# Altium footprint library ElectroPlantoE.PcbLib: 20 footprints (part 1 of 2)
Each footprint in its own frame and in the unit in brackets; x right, y up, seen from the top. Pads: shape width x height; smd on the part's side, far side on the other; paste and mask are expansions set on the pad; w line width, h text height; cw(c..) or ccw(c..) is an arc to the next point about the centre after c.
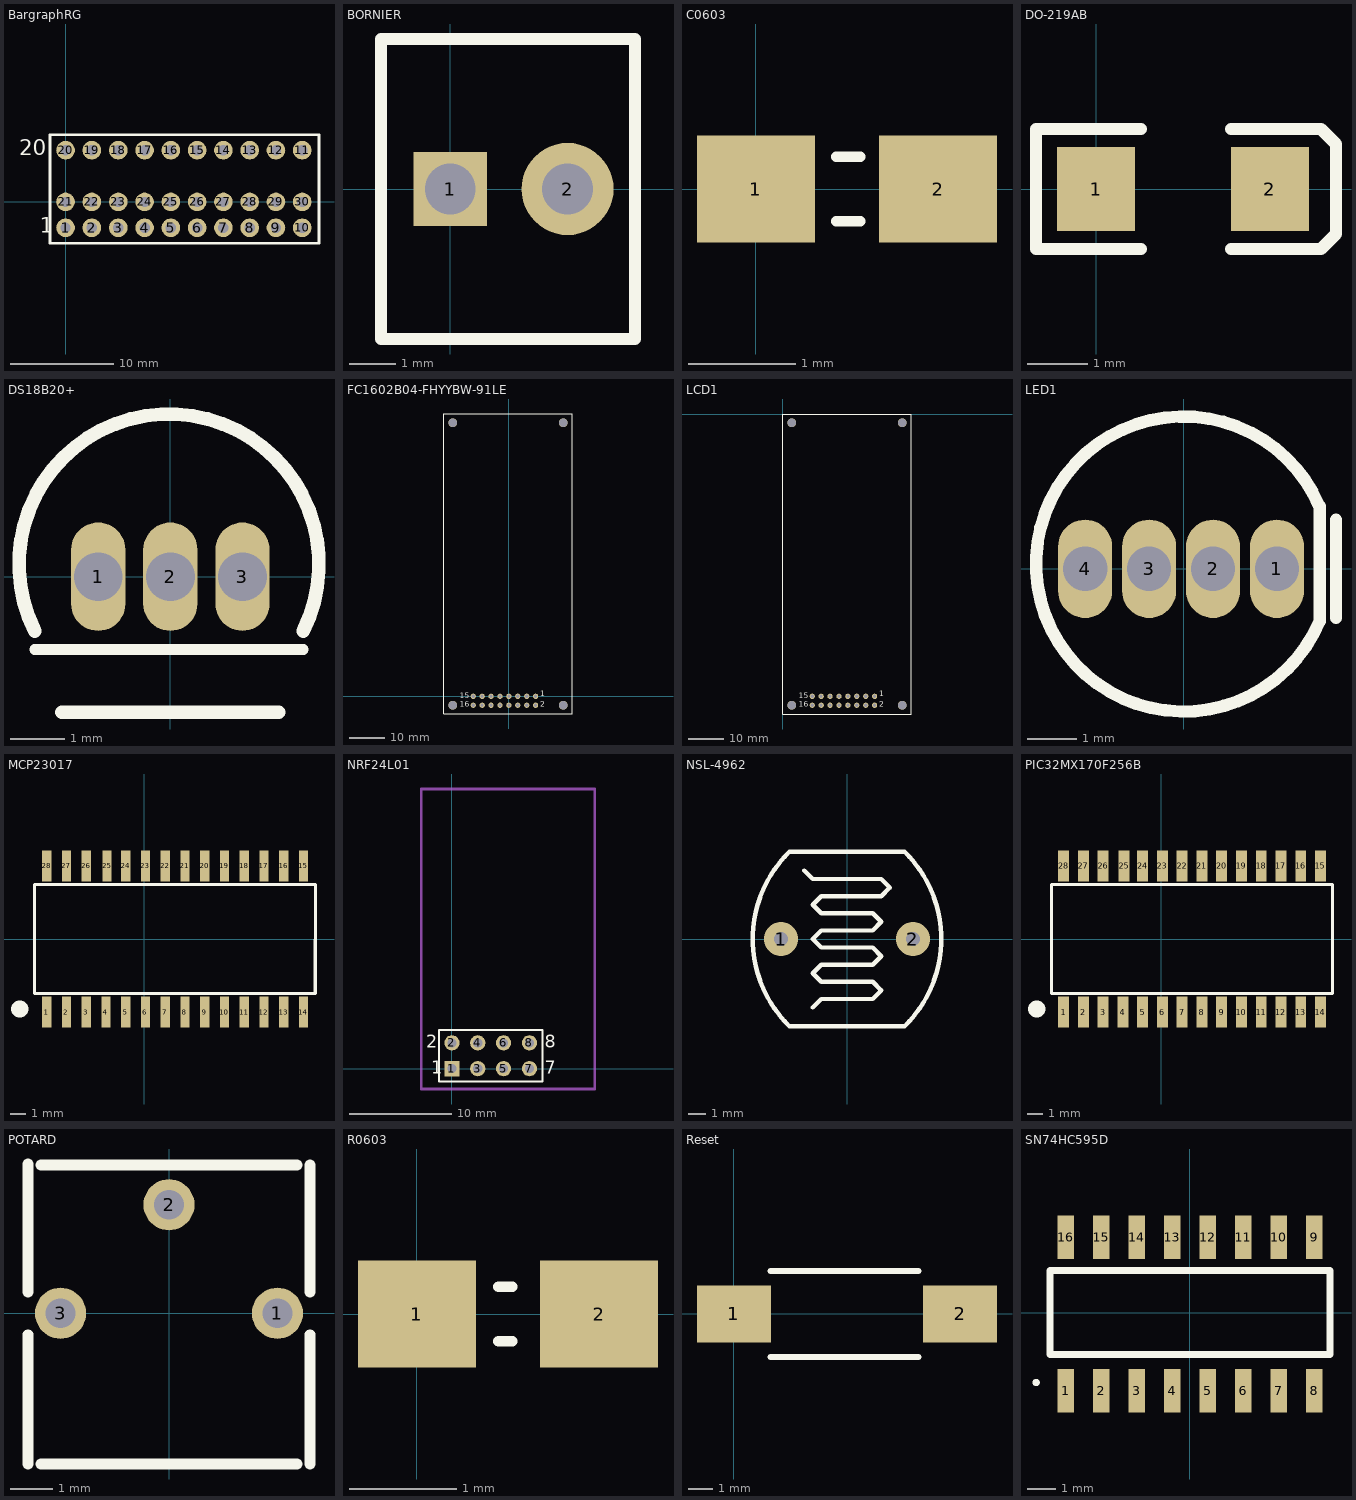
[diagram p0: the footprints below, top view; thin cyan lines are the x and y axes]

## BargraphRG [mm]
height 8
pads (30):
  round 1.8 hole 1: 1(0,-2.5) 2(2.54,-2.5) 3(5.1,-2.5) 4(7.64,-2.5) 5(10.18,-2.5) 6(12.72,-2.5) 7(15.26,-2.5) 8(17.8,-2.5) 9(20.34,-2.5) 10(22.88,-2.5) 11(22.88,5) 12(20.34,5) 13(17.8,5) 14(15.26,5) 15(12.72,5) 16(10.18,5) 17(7.64,5) 18(5.1,5) 19(2.54,5) 20(0,5) 21(0,0) 22(2.54,0) 23(5.1,0) 24(7.64,0) 25(10.18,0) 26(12.72,0) 27(15.26,0) 28(17.8,0) 29(20.34,0) 30(22.88,0)
Top Overlay:
  lines w0.254: -1.5,-4 24.5,-4 24.5,6.5 -1.5,6.5 -1.5,-4
  text "20" at -4.5,4.5 h1.52
  text "1" at -2.5,-3 h1.52

## BORNIER [mm]
pads (2):
  rect 1.6x1.6 hole 1.1: 1(0,0)
  round 2 hole 1.1: 2(2.54,0)
Top Overlay:
  lines w0.254: -1.5,-3.25 4,-3.25 4,3.25 -1.5,3.25 -1.5,-3.25

## C0603 [mm]
pads (2):
  rect 1.1x1 smd: 1(0,0) 2(1.7,0)
Top Overlay:
  lines w0.1: 0.75,-0.3 0.975,-0.3 ; 0.75,0.3 0.975,0.3

## DO-219AB [mm]
height 1.08
pads (2):
  rect 1.3x1.4 smd: 1(0,0) 2(2.9,0)
Top Overlay:
  lines w0.2: 0.75,-1 -1,-1 -1,1 0.75,1 ; 2.25,-1 3.75,-1 4,-0.75 4,0.75 3.75,1 2.25,1

## DS18B20+ [mm] "DS18B20+"
height 0.126
pads (3):
  oval 1x2 hole 0.9: 1(-1.33,0) 2(0,0) 3(1.33,0)
Top Overlay:
  lines w0.2: -2.5,-1.345 2.45,-1.345
  lines w0.254: -2.5,-1 cw(c-0.025,0.234) 2.45,-1 ; -2,-2.5 2,-2.5

## FC1602B04-FHYYBW-91LE [mm] "LCD"
pads (20):
  round 1.5 hole 0.9: 1(7.62,0) 2(7.62,-2.54) 3(5.08,0) 4(5.08,-2.54) 5(2.54,0) 6(2.54,-2.54) 7(0,0) 8(0,-2.54) 9(-2.54,0) 10(-2.54,-2.54) 11(-5.08,0) 12(-5.08,-2.54) 13(-7.62,0) 14(-7.62,-2.54) 16(-10.16,-2.54)
  round 1.5 hole 1: 15(-10.16,0)
  round 2.5 hole 2.5: NC(-16,-2.54) NC(-16,77.96) NC(15.5,-2.54) NC(15.5,77.96)
Top Overlay:
  lines w0.254: -18.5,-5.04 -18.5,80.46 18,80.46 18,-5.04 -18.5,-5.04
  text "1" at 9,-0.04 h1.52
  text "2" at 9,-3.04 h1.52
  text "15" at -14,-0.54 h1.52
  text "16" at -14,-3.04 h1.52

## LCD1 [mm]
pads (20):
  round 1.5 hole 0.9: 1(26.12,-80.46) 2(26.12,-83) 3(23.58,-80.46) 4(23.58,-83) 5(21.04,-80.46) 6(21.04,-83) 7(18.5,-80.46) 8(18.5,-83) 9(15.96,-80.46) 10(15.96,-83) 11(13.42,-80.46) 12(13.42,-83) 13(10.88,-80.46) 14(10.88,-83) 16(8.34,-83)
  round 1.5 hole 1: 15(8.34,-80.46)
  round 2.5 hole 2.5: NC(2.5,-83) NC(2.5,-2.5) NC(34,-83) NC(34,-2.5)
Top Overlay:
  lines w0.254: 0,-85.5 0,0 36.5,0 36.5,-85.5 0,-85.5
  text "1" at 27.5,-80.5 h1.52
  text "2" at 27.5,-83.5 h1.52
  text "15" at 4.5,-81 h1.52
  text "16" at 4.5,-83.5 h1.52

## LED1 [mm] "LedRGB"
pads (4):
  oval 1.1x2 hole 0.9: 1(1.9,0) 2(0.6,0) 3(-0.7,0) 4(-2,0)
Top Overlay:
  lines w0.254: 2.762,1.27 ccw(c0,0.098) 2.766,-1.063 ; 2.773,-1.063 2.773,1.27 ; 3.1,-1 3.1,1

## MCP23017 [mm]
pads (28):
  rect 0.6x2 smd: 1(-6.27,-4.7) 2(-5,-4.7) 3(-3.73,-4.7) 4(-2.46,-4.7) 5(-1.19,-4.7) 6(0.08,-4.7) 7(1.35,-4.7) 8(2.62,-4.7) 9(3.89,-4.7) 10(5.16,-4.7) 11(6.43,-4.7) 12(7.7,-4.7) 13(8.97,-4.7) 14(10.24,-4.7) 15(10.24,4.7) 16(8.97,4.7) 17(7.7,4.7) 18(6.43,4.7) 19(5.16,4.7) 20(3.89,4.7) 21(2.62,4.7) 22(1.35,4.7) 23(0.08,4.7) 24(-1.19,4.7) 25(-2.39,4.7) 26(-3.73,4.7) 27(-5,4.7) 28(-6.27,4.7)
Top Overlay:
  circle w1: c-8,-4.5 r0.05
  lines w0.2: 11,-3.5 11.015,3.5 -7.045,3.5 -7.045,-3.5 11.015,-3.5

## NRF24L01 [mm]
pads (8):
  rect 1.5x1.5 hole 0.9: 1(0,0)
  round 1.5 hole 0.9: 2(0,2.54) 3(2.54,0) 4(2.54,2.54) 5(5.08,0) 6(5.08,2.54) 7(7.62,0) 8(7.62,2.54)
Top Overlay:
  lines w0.2: -1.27,-1.27 8.89,-1.27 8.89,3.81 -1.27,3.81 -1.27,-1.27
  text "2" at -2.54,2.032 h1.27
  text "1" at -2.032,-0.508 h1.27
  text "7" at 9.144,-0.508 h1.27
  text "8" at 9.144,2.032 h1.27
Mechanical 1:
  lines w0.254: -3,-2 -3,27.5 14.025,27.5 14.025,-2 -3,-2

## NSL-4962 [mm]
pads (2):
  round 2 hole 0.8: 1(-3.85,0) 2(3.85,0)
Top Overlay:
  lines w0.254: -2.5,4 -2,3.5 2,3.5 2.5,3 2,2.5 -1.5,2.5 -2,2 -1.5,1.5 1.5,1.5 2,1 1.5,0.5 -1.5,0.5 -2,0 ; -2,-4 -1.5,-3.5 1.5,-3.5 2,-3 1.5,-2.5 -1.5,-2.5 -2,-2 ; -2,-2 -1.5,-1.5 1.5,-1.5 2,-1 ; -2,-2 -2,-2 ; -2,0 -2,0 ; -2,0 -1.5,-0.5 1.5,-0.5 2,-1 ; 2,-1 2,-1 ; -3.351,-5.1 cw(c1.626,0) -3.351,5.1 3.351,5.1 cw(c-1.626,0) 3.351,-5.1 -3.351,-5.1

## PIC32MX170F256B [mm]
pads (28):
  rect 0.7x2 smd: 1(-6.27,-4.7) 2(-5,-4.7) 3(-3.73,-4.7) 4(-2.46,-4.7) 5(-1.19,-4.7) 6(0.08,-4.7) 7(1.35,-4.7) 8(2.62,-4.7) 9(3.89,-4.7) 10(5.16,-4.7) 11(6.43,-4.7) 12(7.7,-4.7) 13(8.97,-4.7) 14(10.24,-4.7) 15(10.24,4.7) 16(8.97,4.7) 17(7.7,4.7) 18(6.43,4.7) 19(5.16,4.7) 20(3.89,4.7) 21(2.62,4.7) 22(1.35,4.7) 23(0.08,4.7) 24(-1.19,4.7) 25(-2.39,4.7) 26(-3.73,4.7) 27(-5,4.7) 28(-6.27,4.7)
Top Overlay:
  circle w1: c-8,-4.5 r0.05
  lines w0.2: -7.045,-3.5 -7.045,3.5 11.015,3.5 11.015,-3.5 -7.045,-3.5

## POTARD [mm]
pads (3):
  round 1.2 hole 0.7: 1(2.54,0.005) 2(0,2.545) 3(-2.54,0.005)
Top Overlay:
  lines w0.254: -3.3,-3.525 -3.3,-0.5 ; -3.3,0.5 -3.3,3.5 ; -3,-3.525 3,-3.525 ; -3,3.475 3,3.475 ; 3.3,-3.525 3.3,-0.5 ; 3.3,0.5 3.3,3.475

## R0603 [mm]
pads (2):
  rect 1.1x1 smd: 1(0,0) 2(1.7,0)
Top Overlay:
  lines w0.1: 0.762,-0.254 0.889,-0.254 ; 0.762,0.254 0.889,0.254

## Reset [mm]
pads (2):
  rect 3x2.3 smd: 1(0,0) 2(9.2,0)
Top Overlay:
  lines w0.254: 1.5,-1.75 7.5,-1.75 ; 1.5,1.75 7.5,1.75

## SN74HC595D [mm]
pads (16):
  rect 0.6x1.55 smd: 1(-4.445,-2.8) 2(-3.175,-2.8) 3(-1.905,-2.8) 4(-0.635,-2.8) 5(0.635,-2.8) 6(1.905,-2.8) 7(3.175,-2.8) 8(4.445,-2.8) 9(4.445,2.7) 10(3.175,2.7) 11(1.905,2.7) 12(0.635,2.7) 13(-0.635,2.7) 14(-1.905,2.7) 15(-3.175,2.7) 16(-4.445,2.7)
Top Overlay:
  circle w0.254: c-5.5,-2.5 r0.005
  lines w0.254: -5,-1.5 -5,1.5 5,1.5 5,-1.5 -5,-1.5